# Altium schematic symbol library TLP2962.SchLib: 1 symbol
Pins are listed as number, name and electrical type; pins without a type are passive.

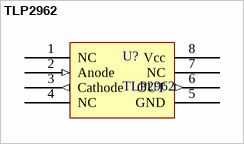
[diagram p0: symbol TLP2962]

## TLP2962
designator U?
Optocoupler; Manufacturer: Toshiba; Reference: TLP2962
pins: 1 NC, 2 Anode (in), 3 Cathode (out), 4 NC, 5 GND (power), 6 OUT (out), 7 NC, 8 Vcc (power)